# EAGLE library part A3G4250DTR (library LinnesLab-Sensors)
A3G4250DTR device. Footprint from SnapEDA, symbol developed in-house. RESV denotes reserved. RESV1-RESV5 are connected to ground. RESV_VDD is connected to Vdd.
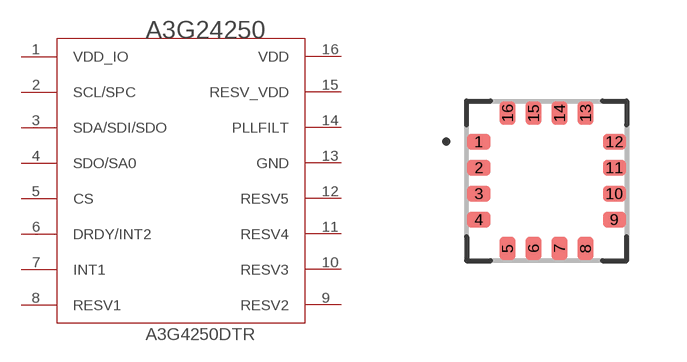
[diagram p19: symbol with the pads of A3G4250DTR; footprint A3G4250DTR]

Designator prefix A3G24250

## A3G4250DTR  [A3G4250DTR]
1  VDD_IO
2  SCL/SPC
3  SDA/SDI/SDO
4  SDO/SA0
5  CS
6  DRDY/INT2
7  INT1
8  RESV1
9  RESV2
10  RESV3
11  RESV4
12  RESV5
13  GND
14  PLLFILT
15  RESV_VDD
16  VDD

## Footprint A3G4250DTR (pad centres in mm)
smd 0.58 x 0.4: 1 -1.695,0.975; 2 -1.695,0.325; 3 -1.695,-0.325; 4 -1.695,-0.975; 9 1.695,-0.975; 10 1.695,-0.325; 11 1.695,0.325; 12 1.695,0.975
smd 0.4 x 0.58: 5 -0.975,-1.695; 6 -0.325,-1.695; 7 0.325,-1.695; 8 0.975,-1.695; 13 0.975,1.695; 14 0.325,1.695; 15 -0.325,1.695; 16 -0.975,1.695